# Altium schematic symbol library SD Card.SchLib: 1 symbol
Pins are listed as number, name and electrical type; pins without a type are passive.

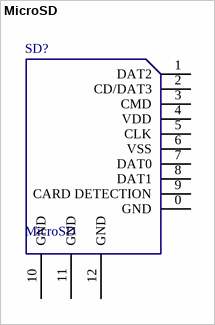
[diagram p0: symbol MicroSD]

## MicroSD
designator SD?
佐田¦(自弹)TF卡座 micro sd卡座; ComponentLink1Description: taobao.com; ComponentLink1URL: https://detail.tmall.com/item.htm?id=44131369945&spm=a1z09.2.0.0.73b72e8dl9KedD&_u=am2gus40e9e
footprint Micro SD
pins: 0 GND, 1 DAT2, 2 CD/DAT3, 3 CMD, 4 VDD, 5 CLK, 6 VSS, 7 DAT0, 8 DAT1, 9 CARD DETECTION, 10 GND, 11 GND, 12 GND